# EAGLE library part LM3410 (library dword1511-pmic-dcdc)
525-kHz and 1.6-MHz, Constant-Current Boost and SEPIC LED Driver With Internal Compensation
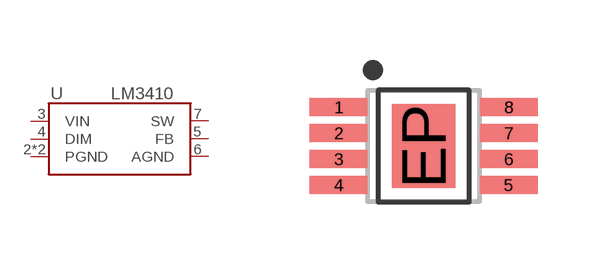
[diagram p25: symbol with the pads of MSOP-8-3X3-EP; footprint MSOP-8-3X3-EP]

Designator prefix U

## LM3410XMY, LM3410XQMY, LM3410YMY, LM3410YQMY  [MSOP-8-3X3-EP]
2  PGND  pwr
3  VIN  pwr
4  DIM  in
5  FB  in
6  AGND  pwr
7  SW  out
EP  PGND  pwr

## Footprint MSOP-8-3X3-EP (pad centres in mm)
smd 1.45 x 0.45: 1 -2.125,0.975; 2 -2.125,0.325; 3 -2.125,-0.325; 4 -2.125,-0.975; 5 2.125,-0.975; 6 2.125,-0.325; 7 2.125,0.325; 8 2.125,0.975
smd 1.6 x 2.1: EP 0,0